# EAGLE library part MPU-9250 (library ModernDevice)
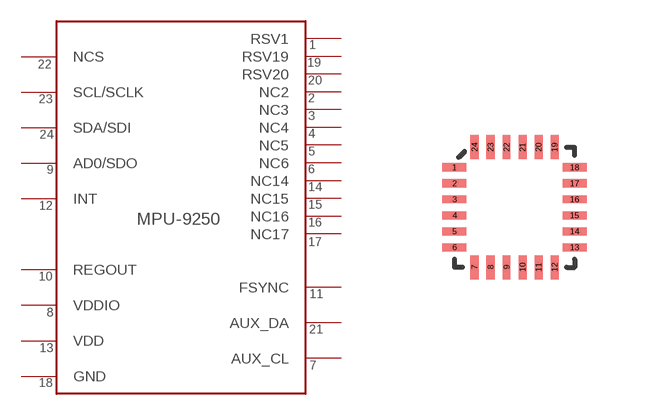
[diagram p84: symbol with the pads of MPU_QFN-24; footprint MPU_QFN-24]

Designator prefix -

## MPU-9250  [MPU_QFN-24]
1  RSV1
2  NC2
3  NC3
4  NC4
5  NC5
6  NC6
7  AUX_CL
8  VDDIO
9  AD0/SDO
10  REGOUT
11  FSYNC
12  INT
13  VDD
14  NC14
15  NC15
16  NC16
17  NC17
18  GND
19  RSV19
20  RSV20
21  AUX_DA
22  NCS
23  SCL/SCLK
24  SDA/SDI

## Footprint MPU_QFN-24 (pad centres in mm)
smd 0.6 x 0.2: 1 -1.5,1; 2 -1.5,0.6; 3 -1.5,0.2; 4 -1.5,-0.2; 5 -1.5,-0.6; 6 -1.5,-1; 13 1.5,-1; 14 1.5,-0.6; 15 1.5,-0.2; 16 1.5,0.2; 17 1.5,0.6; 18 1.5,1
smd 0.2 x 0.6: 7 -1,-1.5; 8 -0.6,-1.5; 9 -0.2,-1.5; 10 0.2,-1.5; 11 0.6,-1.5; 12 1,-1.5; 19 1,1.5; 20 0.6,1.5; 21 0.2,1.5; 22 -0.2,1.5; 23 -0.6,1.5; 24 -1,1.5